# Altium integrated library resistor-0603.IntLib: 1 symbol
Pins are listed as number, name and electrical type; pins without a type are passive.

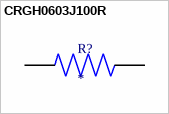
[diagram p0: symbol CRGH0603J100R]

## CRGH0603J100R
designator R?
Resistor, Thick Film, 0603 Case, 100Ohm +/-5% 0.2W +/-200ppm/degC | TE Connectivity CRGH0603J100R; Power_Rating: .2 W; Resistance: 100; Voltage_Rating: 50 V; Tolerance: 5%; SnapEDA_Link: https://www.snapeda.com/parts/CRGH0603J100R/TE+Connectivity+Passive+Product/view-part/?ref=snap; Package: 0603; Value: *; MF: TE Connectivity; MP: CRGH0603J100R; EU_RoHS_Compliance: Compliant with Exemptions; Check_prices: https://www.snapeda.com/parts/CRGH0603J100R/TE+Connectivity+Passive+Product/view-part/?ref=eda
footprint RESC1608X55N
pins: 1, 2